# Altium schematic symbol library B82477P4104M000.SchLib: 1 symbol
Pins are listed as number, name and electrical type; pins without a type are passive.

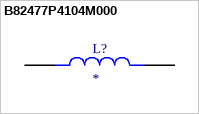
[diagram p0: symbol B82477P4104M000]

## B82477P4104M000
designator L?
MP: B82477P4104M000; MF: TDK ELECTRONICS; Value: *; Purchase-URL: https://pricing.snapeda.com/search/part/B82477P4104M000/?ref=eda; Package: None; Check_prices: https://www.snapeda.com/parts/B82477P4104M000/TM+Electronics/view-part/?ref=eda; Price: None; Availability: In Stock; SnapEDA_Link: https://www.snapeda.com/parts/B82477P4104M000/TM+Electronics/view-part/?ref=snap
footprint IND_B82477P4104M000
pins: 1, 2